# Altium footprint library Capacitors.PcbLib: 88 footprints (part 4 of 6)
Each footprint in its own frame and in the unit in brackets; x right, y up, seen from the top. Pads: shape width x height; smd on the part's side, far side on the other; paste and mask are expansions set on the pad; w line width, h text height; cw(c..) or ccw(c..) is an arc to the next point about the centre after c.
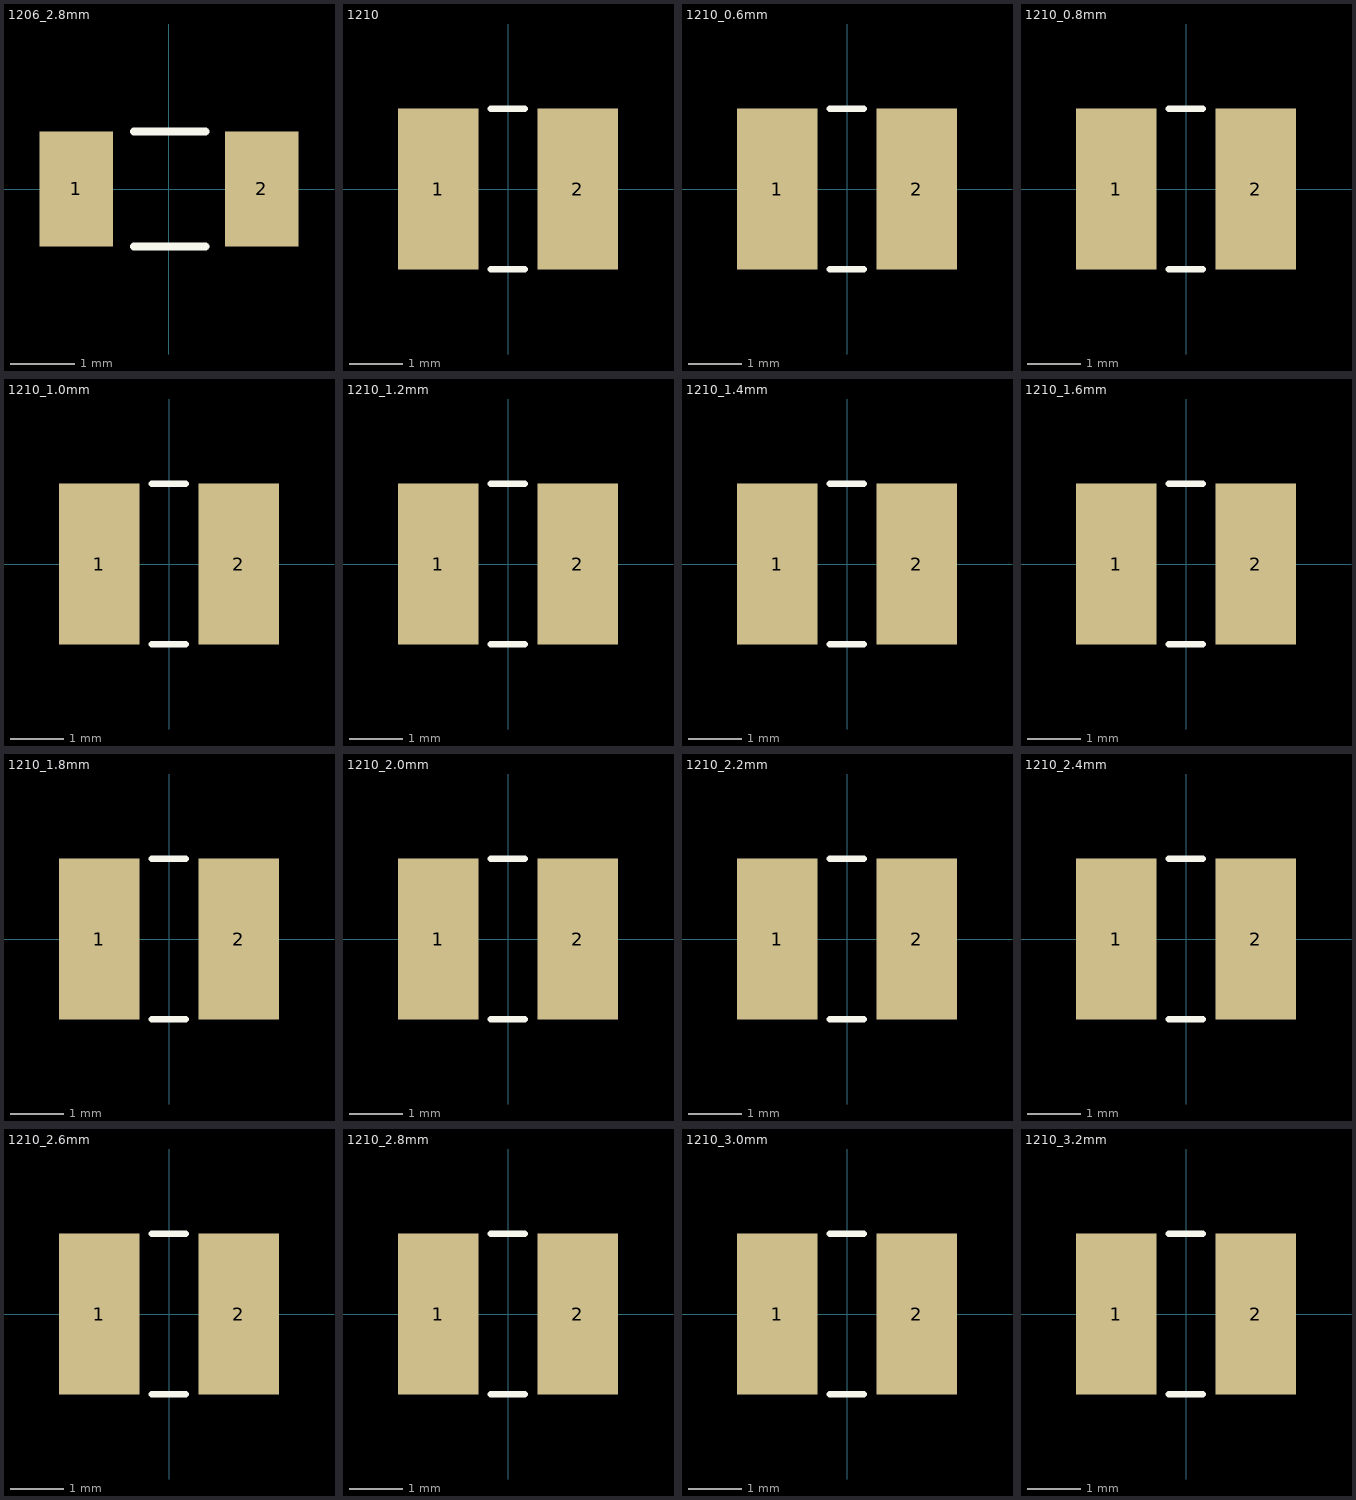
[diagram p3: the footprints below, top view; thin cyan lines are the x and y axes]

## 1206_2.8mm [mm] "3216 Metric/20230206/J-A.Sepulveda"
pads (2):
  rect 1.15x1.8 smd: 1(-1.45,0) 2(1.45,0)
Top Overlay:
  lines w0.127: -0.55,-0.9 0.57,-0.9 ; -0.55,0.9 0.57,0.9
3D body: height 2.9, standoff 0.1, extent -1.6,-0.8 1.6,0.8

## 1210 [mm] "3225 Metric / 20190221 / C-A.Serna.A"
pads (2):
  rect 1.5x3 smd: 1(-1.3,0) 2(1.3,0)
Top Overlay:
  lines w0.127: -0.322,-1.499 0.313,-1.499 ; -0.322,1.499 0.313,1.499
3D body "74851.stp": height 2.8, standoff 0, extent -1.78,-1.397 1.72,1.403

## 1210_0.6mm [mm] "3225 Metric/20230306/J-A.Sepulveda"
pads (2):
  rect 1.5x3 smd: 1(-1.3,0) 2(1.3,0)
Top Overlay:
  lines w0.127: -0.322,-1.499 0.313,-1.499 ; -0.322,1.499 0.313,1.499
3D body: height 0.7, standoff 0.1, extent -1.75,-1.4 1.75,1.4

## 1210_0.8mm [mm] "3225 Metric/20230306/J-A.Sepulveda"
pads (2):
  rect 1.5x3 smd: 1(-1.3,0) 2(1.3,0)
Top Overlay:
  lines w0.127: -0.322,-1.499 0.313,-1.499 ; -0.322,1.499 0.313,1.499
3D body: height 0.9, standoff 0.1, extent -1.75,-1.4 1.75,1.4

## 1210_1.0mm [mm] "3225 Metric/20230206/J-A.Sepulveda"
pads (2):
  rect 1.5x3 smd: 1(-1.3,0) 2(1.3,0)
Top Overlay:
  lines w0.127: -0.322,-1.499 0.313,-1.499 ; -0.322,1.499 0.313,1.499
3D body: height 1.1, standoff 0.1, extent -1.75,-1.4 1.75,1.4

## 1210_1.2mm [mm] "3225 Metric/20230206/J-A.Sepulveda"
pads (2):
  rect 1.5x3 smd: 1(-1.3,0) 2(1.3,0)
Top Overlay:
  lines w0.127: -0.322,-1.499 0.313,-1.499 ; -0.322,1.499 0.313,1.499
3D body: height 1.3, standoff 0.1, extent -1.75,-1.4 1.75,1.4

## 1210_1.4mm [mm] "3225 Metric/20230206/J-A.Sepulveda"
pads (2):
  rect 1.5x3 smd: 1(-1.3,0) 2(1.3,0)
Top Overlay:
  lines w0.127: -0.322,-1.499 0.313,-1.499 ; -0.322,1.499 0.313,1.499
3D body: height 1.5, standoff 0.1, extent -1.75,-1.4 1.75,1.4

## 1210_1.6mm [mm] "3225 Metric/20230206/J-A.Sepulveda"
pads (2):
  rect 1.5x3 smd: 1(-1.3,0) 2(1.3,0)
Top Overlay:
  lines w0.127: -0.322,-1.499 0.313,-1.499 ; -0.322,1.499 0.313,1.499
3D body: height 1.7, standoff 0.1, extent -1.75,-1.4 1.75,1.4

## 1210_1.8mm [mm] "3225 Metric/20230206/J-A.Sepulveda"
pads (2):
  rect 1.5x3 smd: 1(-1.3,0) 2(1.3,0)
Top Overlay:
  lines w0.127: -0.322,-1.499 0.313,-1.499 ; -0.322,1.499 0.313,1.499
3D body: height 1.9, standoff 0.1, extent -1.75,-1.4 1.75,1.4

## 1210_2.0mm [mm] "3225 Metric/20230206/J-A.Sepulveda"
pads (2):
  rect 1.5x3 smd: 1(-1.3,0) 2(1.3,0)
Top Overlay:
  lines w0.127: -0.322,-1.499 0.313,-1.499 ; -0.322,1.499 0.313,1.499
3D body: height 2.1, standoff 0.1, extent -1.75,-1.4 1.75,1.4

## 1210_2.2mm [mm] "3225 Metric/20230206/J-A.Sepulveda"
pads (2):
  rect 1.5x3 smd: 1(-1.3,0) 2(1.3,0)
Top Overlay:
  lines w0.127: -0.322,-1.499 0.313,-1.499 ; -0.322,1.499 0.313,1.499
3D body: height 2.3, standoff 0.1, extent -1.75,-1.4 1.75,1.4

## 1210_2.4mm [mm] "3225 Metric/20230206/J-A.Sepulveda"
pads (2):
  rect 1.5x3 smd: 1(-1.3,0) 2(1.3,0)
Top Overlay:
  lines w0.127: -0.322,-1.499 0.313,-1.499 ; -0.322,1.499 0.313,1.499
3D body: height 2.5, standoff 0.1, extent -1.75,-1.4 1.75,1.4

## 1210_2.6mm [mm] "3225 Metric/20230206/J-A.Sepulveda"
pads (2):
  rect 1.5x3 smd: 1(-1.3,0) 2(1.3,0)
Top Overlay:
  lines w0.127: -0.322,-1.499 0.313,-1.499 ; -0.322,1.499 0.313,1.499
3D body: height 2.7, standoff 0.1, extent -1.75,-1.4 1.75,1.4

## 1210_2.8mm [mm] "3225 Metric/20230206/J-A.Sepulveda"
pads (2):
  rect 1.5x3 smd: 1(-1.3,0) 2(1.3,0)
Top Overlay:
  lines w0.127: -0.322,-1.499 0.313,-1.499 ; -0.322,1.499 0.313,1.499
3D body: height 2.9, standoff 0.1, extent -1.75,-1.4 1.75,1.4

## 1210_3.0mm [mm] "3225 Metric/20230206/J-A.Sepulveda"
pads (2):
  rect 1.5x3 smd: 1(-1.3,0) 2(1.3,0)
Top Overlay:
  lines w0.127: -0.322,-1.499 0.313,-1.499 ; -0.322,1.499 0.313,1.499
3D body: height 3.1, standoff 0.1, extent -1.75,-1.4 1.75,1.4

## 1210_3.2mm [mm] "3225 Metric/20230206/J-A.Sepulveda"
pads (2):
  rect 1.5x3 smd: 1(-1.3,0) 2(1.3,0)
Top Overlay:
  lines w0.127: -0.322,-1.499 0.313,-1.499 ; -0.322,1.499 0.313,1.499
3D body: height 3.3, standoff 0.1, extent -1.75,-1.4 1.75,1.4